# EAGLE library part ADG1433 (library Cerebro-library)
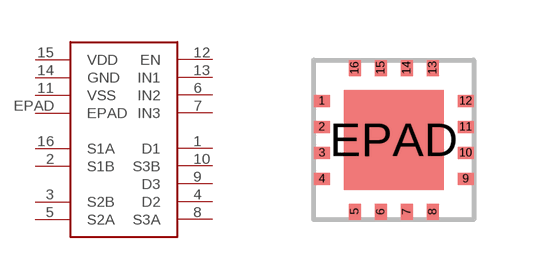
[diagram p12: symbol with the pads of LFCSP; footprint LFCSP]

Designator prefix -

## ADG1433  [LFCSP]
1  D1
2  S1B
3  S2B
4  D2
5  S2A
6  IN2  in
7  IN3  in
8  S3A
9  D3
10  S3B
11  VSS  pwr
12  EN  in
13  IN1  in
14  GND  pwr
15  VDD  pwr
16  S1A
EPAD  EPAD

## Footprint LFCSP (pad centres in mm)
smd 0.4 x 0.3: 1 -1.8,0.975; 2 -1.8,0.325; 3 -1.8,-0.325; 4 -1.8,-0.975; 9 1.8,-0.975; 10 1.8,-0.325; 11 1.8,0.325; 12 1.8,0.975
smd 0.3 x 0.4: 5 -0.975,-1.8; 6 -0.325,-1.8; 7 0.325,-1.8; 8 0.975,-1.8; 13 0.975,1.8; 14 0.325,1.8; 15 -0.325,1.8; 16 -0.975,1.8
smd 2.5 x 2.5: EPAD 0,0